# Altium footprint library Scope.PcbLib: 4 footprints
Each footprint in its own frame and in the unit in brackets; x right, y up, seen from the top. Pads: shape width x height; smd on the part's side, far side on the other; paste and mask are expansions set on the pad; w line width, h text height; cw(c..) or ccw(c..) is an arc to the next point about the centre after c.
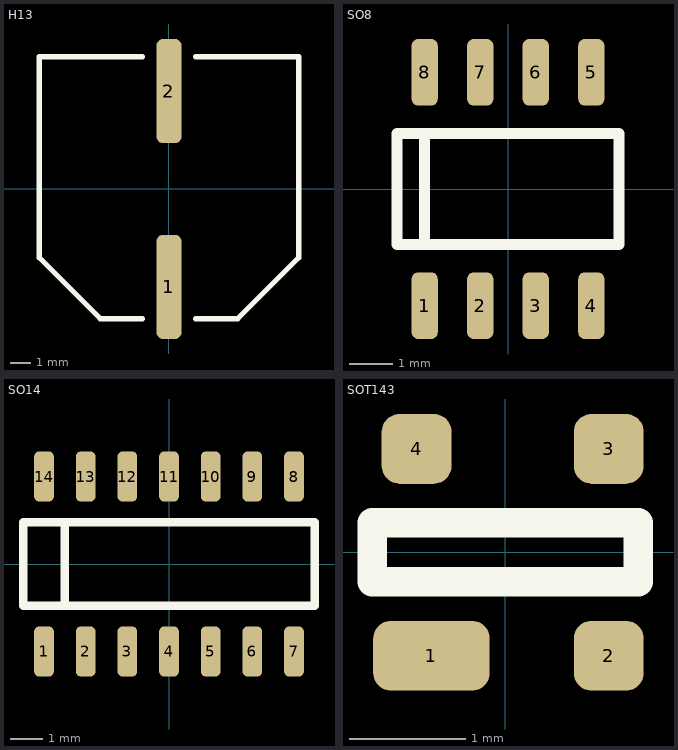
[diagram p0: the footprints below, top view; thin cyan lines are the x and y axes]

## H13 [mm] "Lyt aluminum Cap SMD"
height 13
pads (2):
  rrect50% 1.2x5 smd: 1(0,-4.699) 2(0,4.699)
Top Overlay:
  lines w0.254: -1.27,-6.223 -3.302,-6.223 -6.223,-3.302 -6.223,6.35 -1.27,6.35 ; 1.27,-6.223 3.175,-6.223 3.302,-6.223 6.223,-3.302 6.223,6.35 1.27,6.35

## SO8 [mil]
pads (8):
  rrect50% 23.62x60 smd: 1(-75,-105) 2(-25,-105) 3(25,-105) 4(75,-105) 5(75,105) 6(25,105) 7(-25,105) 8(-75,105)
Top Overlay:
  lines w10: -75,-50 -75,50 -100,50 ; -100,50 -100,-50 100,-50 100,50 -100,50

## SO14 [mil]
pads (14):
  rrect50% 23.62x60 smd: 1(-150,-105) 2(-100,-105) 3(-50,-105) 4(0,-105) 5(50,-105) 6(100,-105) 7(150,-105) 8(150,105) 9(100,105) 10(50,105) 11(0,105) 12(-50,105) 13(-100,105) 14(-150,105)
Top Overlay:
  lines w10: -125,-50 -125,50 ; -175,-50 -175,50 175,50 175,-50 -175,-50

## SOT143 [mm]
pads (4):
  rrect50% 1x0.6 smd: 1(-0.635,-0.889)
  rrect50% 0.6x0.6 smd: 2(0.889,-0.889) 3(0.889,0.889) 4(-0.762,0.889)
Top Overlay:
  lines w0.254: -1.143,-0.254 -1.143,0.254 1.143,0.254 1.143,-0.254 -1.143,-0.254